# Altium schematic symbol library SHT21.SchLib: 1 symbol
Pins are listed as number, name and electrical type; pins without a type are passive.

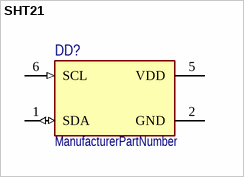
[diagram p0: symbol SHT21]

## SHT21
designator DD?  (value not drawn)
ManufacturerPartNumber: ManufacturerPartNumber
pins: 1 SDA (io), 2 GND (power), 5 VDD (power), 6 SCL (in)